# Altium footprint library MolexMicroFit_14-pin.PcbLib: 1 footprints
Each footprint in its own frame and in the unit in brackets; x right, y up, seen from the top. Pads: shape width x height; smd on the part's side, far side on the other; paste and mask are expansions set on the pad; w line width, h text height; cw(c..) or ccw(c..) is an arc to the next point about the centre after c.
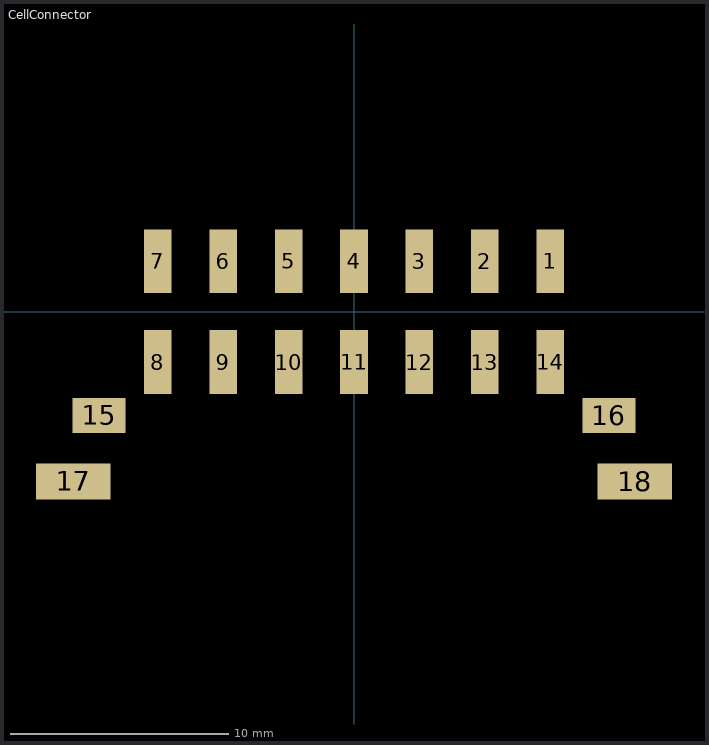
[diagram p0: the footprint, top view; thin cyan lines are the x and y axes]

## CellConnector [mm] "Molex 14-Pin, Right Angle, Tin Plated"
pads (18):
  rect 1.27x2.92 smd: 1(9,2.315) 2(6,2.315) 3(3,2.315) 4(0,2.315) 5(-3,2.315) 6(-6,2.315) 7(-9,2.315) 8(-9,-2.315) 9(-6,-2.315) 10(-3,-2.315) 11(0,-2.315) 12(3,-2.315) 13(6,-2.315) 14(9,-2.315)
  rect 2.45x1.6 smd: 15(-11.7,-4.765) 16(11.7,-4.765)
  rect 3.43x1.65 smd: 17(-12.885,-7.785) 18(12.885,-7.785)
3D body: height 28.56, standoff 5.39, extent 2.159,-3.429 2.159,-3.429
3D body "Assem1.STEP": height 10.95, standoff 0.12, extent -14.325,-20.026 14.325,3.048